# Altium footprint library BAT_SMTU2032-LF.PcbLib: 1 footprints
Each footprint in its own frame and in the unit in brackets; x right, y up, seen from the top. Pads: shape width x height; smd on the part's side, far side on the other; paste and mask are expansions set on the pad; w line width, h text height; cw(c..) or ccw(c..) is an arc to the next point about the centre after c.
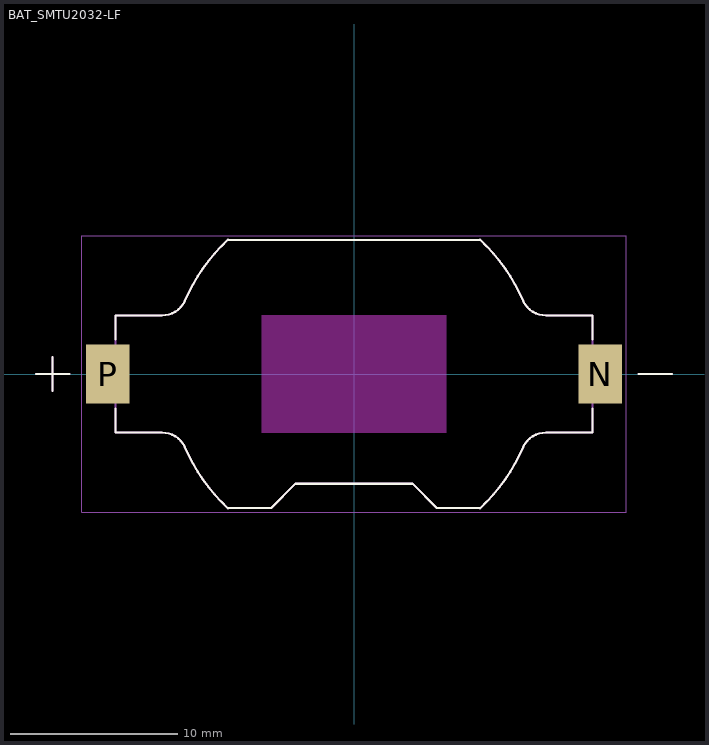
[diagram p0: the footprint, top view; thin cyan lines are the x and y axes]

## BAT_SMTU2032-LF [mm]
height 5.6
pads (2):
  rect 2.6x3.5 smd: N(14.7,0) P(-14.7,0)
Top Overlay:
  lines w0.127: -19,0 -17,0 ; -18,-1 -18,1 ; -14.25,-2.07 -14.25,-3.5 -11.456,-3.5 ; -14.25,2.07 -14.25,3.5 -11.456,3.5 ; -7.547,-8 -4.95,-8 -3.5,-6.55 3.5,-6.55 4.95,-8 7.547,-8 ; -7.547,8 7.547,8 ; 14.25,-2.07 14.25,-3.5 11.456,-3.5 ; 14.25,2.07 14.25,3.5 11.456,3.5 ; 17,0 19,0 ; -11.456,-3.5 cw(c-11.456,-5) -10.228,-4.14 ccw(c-11.456,-5) -11.456,-3.5 ; -11.456,3.5 ccw(c-11.456,5) -10.228,4.14 cw(c-11.456,5) -11.456,3.5 ; 11.456,-3.5 ccw(c11.456,-5) 10.228,-4.14 cw(c11.456,-5) 11.456,-3.5 ; 11.456,3.5 cw(c11.456,5) 10.228,4.14 ccw(c11.456,5) 11.456,3.5 ; -10.228,-4.139 cw(c-11.456,-5) -10.086,-4.39 ccw(c-11.456,-5) -10.228,-4.139 ; -10.228,4.139 ccw(c-11.456,5) -10.086,4.39 cw(c-11.456,5) -10.228,4.139 ; -10.113,-4.326 ccw(c-0.145,-0.095) -7.531,-8.015 cw(c-0.145,-0.095) -10.113,-4.326 ; -10.113,4.326 cw(c-0.145,0.095) -7.531,8.015 ccw(c-0.145,0.095) -10.113,4.326 ; 7.531,-8.015 ccw(c0.145,-0.095) 10.113,-4.326 cw(c0.145,-0.095) 7.531,-8.015 ; 7.531,8.015 cw(c0.145,0.095) 10.113,4.326 ccw(c0.145,0.095) 7.531,8.015 ; 10.086,-4.39 cw(c11.456,-5) 10.228,-4.139 ccw(c11.456,-5) 10.086,-4.39 ; 10.086,4.39 ccw(c11.456,5) 10.228,4.139 cw(c11.456,5) 10.086,4.39
Keep-Out Layer:
  region: 5.5,-3.5 -5.5,-3.5 -5.5,3.5 5.5,3.5
Assembly Top:
  lines w0.127: -19,0 -17,0 ; -18,-1 -18,1 ; -10.228,-4.14 ccw(c-11.456,-5) -11.456,-3.5 -14.25,-3.5 -14.25,3.5 -11.456,3.5 ccw(c-11.456,5) -10.228,4.14 ; -10.228,-4.139 cw(c-11.456,-5) -10.086,-4.39 ; -10.228,4.139 ccw(c-11.456,5) -10.086,4.39 ; -10.113,-4.326 ccw(c-0.145,-0.095) -7.531,-8.015 ; -10.113,4.326 cw(c-0.145,0.095) -7.531,8.015 ; -7.547,-8 -4.95,-8 -3.5,-6.55 3.5,-6.55 4.95,-8 7.547,-8 ; -7.547,8 7.547,8 ; 7.531,-8.015 ccw(c0.145,-0.095) 10.113,-4.326 ; 7.531,8.015 cw(c0.145,0.095) 10.113,4.326 ; 10.086,-4.39 cw(c11.456,-5) 10.228,-4.139 ; 10.086,4.39 ccw(c11.456,5) 10.228,4.139 ; 10.228,-4.14 cw(c11.456,-5) 11.456,-3.5 14.25,-3.5 14.25,3.5 11.456,3.5 cw(c11.456,5) 10.228,4.14 ; 17,0 19,0
Courtyard Top:
  lines w0.05: -16.25,-8.25 16.25,-8.25 16.25,8.25 -16.25,8.25 -16.25,-8.25
3D body "step_temp.STEP": height 5.6, standoff 0, extent -16,-8.05 16,8.05